# Altium footprint library PHOENIX_1711725.PcbLib: 1 footprints
Each footprint in its own frame and in the unit in brackets; x right, y up, seen from the top. Pads: shape width x height; smd on the part's side, far side on the other; paste and mask are expansions set on the pad; w line width, h text height; cw(c..) or ccw(c..) is an arc to the next point about the centre after c.
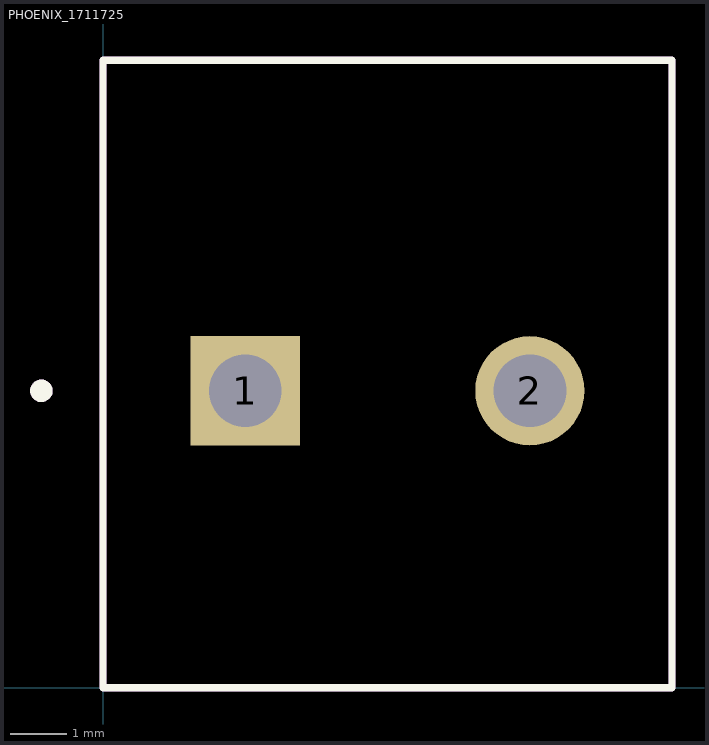
[diagram p0: the footprint, top view; thin cyan lines are the x and y axes]

## PHOENIX_1711725 [mm]
height 18.2
pads (2):
  rect 1.95x1.95 / inner round 1.95 / far side rect 1.95x1.95 hole 1.3: 1(2.54,5.3)
  round 1.95 hole 1.3: 2(7.62,5.3)
Top Overlay:
  circle w0.2: c-1.1,5.3 r0.1
  lines w0.127: 0,0 0,11.2 10.16,11.2 10.16,0 0,0
Mechanical 13:
  circle w0.2: c-1.1,5.3 r0.1
  lines w0.127: 0,0 0,11.2 10.16,11.2 10.16,0 0,0
3D body "1711725.stp": height 18.3, standoff -5, extent -0.254,-0.002 10.476,11.178